# Altium footprint library URB_ZP-10WR3.PcbLib: 1 footprints
Each footprint in its own frame and in the unit in brackets; x right, y up, seen from the top. Pads: shape width x height; smd on the part's side, far side on the other; paste and mask are expansions set on the pad; w line width, h text height; cw(c..) or ccw(c..) is an arc to the next point about the centre after c.
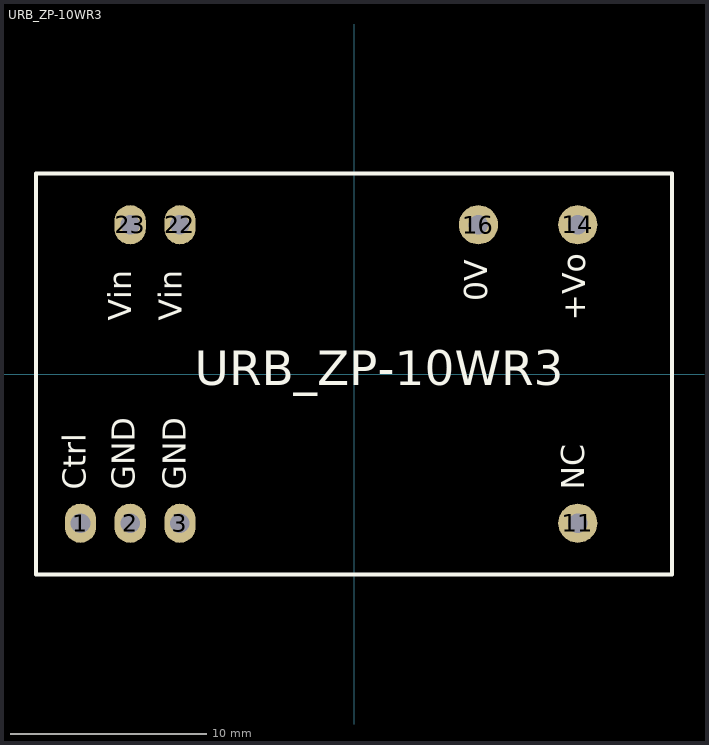
[diagram p0: the footprint, top view; thin cyan lines are the x and y axes]

## URB_ZP-10WR3 [mm]
pads (8):
  oval 1.6x2 hole 1: 1(-13.97,-7.62) 2(-11.43,-7.62) 3(-8.89,-7.62) 22(-8.89,7.62) 23(-11.43,7.62)
  round 2 hole 1: 11(11.43,-7.62) 14(11.43,7.62) 16(6.35,7.62)
Top Overlay:
  lines w0.2: -16.25,-10.25 16.25,-10.25 16.25,10.25 -16.25,10.25 -16.25,-10.25
  text "Ctrl" at -13.305,-5.901 h2
  text "GND" at -10.808,-5.901 h2
  text "GND" at -8.214,-5.901 h2
  text "NC" at 12.144,-5.903 h2
  text "+Vo" at 12.183,2.724 h2
  text "0V" at 7.191,3.709 h2
  text "Vin" at -8.408,2.724 h2
  text "Vin" at -11.002,2.724 h2
  text "URB_ZP-10WR3" at -8.143,-1.161 h3